# Altium integrated library RF Inductors-CAIR_rev15b.intlib: 29 symbols
Pins are listed as number, name and electrical type; pins without a type are passive.

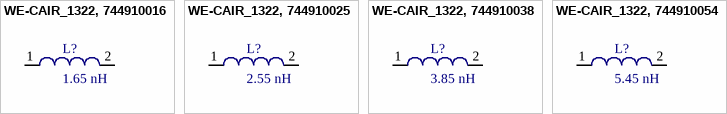
[diagram p0: symbols WE-CAIR_1322, 744910016 to WE-CAIR_1322, 744910054]

## WE-CAIR_1322, 744910016
designator L?, comment 1.65 nH
WE-CAIR Air Coil, L=1.65 nH; partNo: 744910016; Manufacturer: Wurth Elektronik; Inductance: 1.65 nH; ComponentLink1Description: Manufacturer; ComponentLink1URL: http://www.we-online.de; Created by: Baojun Chen; Created Date: Nov.2015; ComponentLink2Description: Datasheet; ComponentLink2URL: http://katalog.we-online.de/pbs/datasheet/744910016.pdf
footprint WE-CAIR_1322 (SMD Inductor, 2-Leads, Body 2.21 x 1.42mm)
pins: 1, 2

## WE-CAIR_1322, 744910025
designator L?, comment 2.55 nH
WE-CAIR Air Coil, L=2.55 nH; partNo: 744910025; Manufacturer: Wurth Elektronik; Inductance: 2.55 nH; ComponentLink1Description: Manufacturer; ComponentLink1URL: http://www.we-online.de; Created by: Baojun Chen; Created Date: Nov.2015; ComponentLink2Description: Datasheet; ComponentLink2URL: http://katalog.we-online.de/pbs/datasheet/744910025.pdf
footprint WE-CAIR_1322 (SMD Inductor, 2-Leads, Body 2.21 x 1.42mm)
pins: 1, 2

## WE-CAIR_1322, 744910038
designator L?, comment 3.85 nH
WE-CAIR Air Coil, L=3.85 nH; partNo: 744910038; Manufacturer: Wurth Elektronik; Inductance: 3.85 nH; ComponentLink1Description: Manufacturer; ComponentLink1URL: http://www.we-online.de; Created by: Baojun Chen; Created Date: Nov.2015; ComponentLink2Description: Datasheet; ComponentLink2URL: http://katalog.we-online.de/pbs/datasheet/744910038.pdf
footprint WE-CAIR_1322 (SMD Inductor, 2-Leads, Body 2.21 x 1.42mm)
pins: 1, 2

## WE-CAIR_1322, 744910054
designator L?, comment 5.45 nH
WE-CAIR Air Coil, L=5.45 nH; partNo: 744910054; Manufacturer: Wurth Elektronik; Inductance: 5.45 nH; ComponentLink1Description: Manufacturer; ComponentLink1URL: http://www.we-online.de; Created by: Baojun Chen; Created Date: Nov.2015; ComponentLink2Description: Datasheet; ComponentLink2URL: http://katalog.we-online.de/pbs/datasheet/744910054.pdf
footprint WE-CAIR_1322 (SMD Inductor, 2-Leads, Body 2.21 x 1.42mm)
pins: 1, 2


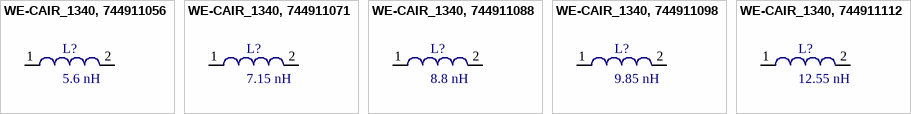
[diagram p1: symbols WE-CAIR_1340, 744911056 to WE-CAIR_1340, 744911112]

## WE-CAIR_1340, 744911056
designator L?, comment 5.6 nH
WE-CAIR Air Coil, L=5.6 nH; partNo: 744911056; Manufacturer: Wurth Elektronik; Inductance: 5.6 nH; ComponentLink1Description: Manufacturer; ComponentLink1URL: http://www.we-online.de; Created by: Baojun Chen; Created Date: Nov.2015; ComponentLink2Description: Datasheet; ComponentLink2URL: http://katalog.we-online.de/pbs/datasheet/744911056.pdf
footprint WE-CAIR_1340 (SMD Inductor, 2-Leads, Body 4.04 x 1.42mm)
pins: 1, 2

## WE-CAIR_1340, 744911071
designator L?, comment 7.15 nH
WE-CAIR Air Coil, L=7.15 nH; partNo: 744911071; Manufacturer: Wurth Elektronik; Inductance: 7.15 nH; ComponentLink1Description: Manufacturer; ComponentLink1URL: http://www.we-online.de; Created by: Baojun Chen; Created Date: Nov.2015; ComponentLink2Description: Datasheet; ComponentLink2URL: http://katalog.we-online.de/pbs/datasheet/744911071.pdf
footprint WE-CAIR_1340 (SMD Inductor, 2-Leads, Body 4.04 x 1.42mm)
pins: 1, 2

## WE-CAIR_1340, 744911088
designator L?, comment 8.8 nH
WE-CAIR Air Coil, L=8.8 nH; partNo: 744911088; Manufacturer: Wurth Elektronik; Inductance: 8.8 nH; ComponentLink1Description: Manufacturer; ComponentLink1URL: http://www.we-online.de; Created by: Baojun Chen; Created Date: Nov.2015; ComponentLink2Description: Datasheet; ComponentLink2URL: http://katalog.we-online.de/pbs/datasheet/744911088.pdf
footprint WE-CAIR_1340 (SMD Inductor, 2-Leads, Body 4.04 x 1.42mm)
pins: 1, 2

## WE-CAIR_1340, 744911098
designator L?, comment 9.85 nH
WE-CAIR Air Coil, L=9.85 nH; partNo: 744911098; Manufacturer: Wurth Elektronik; Inductance: 9.85 nH; ComponentLink1Description: Manufacturer; ComponentLink1URL: http://www.we-online.de; Created by: Baojun Chen; Created Date: Nov.2015; ComponentLink2Description: Datasheet; ComponentLink2URL: http://katalog.we-online.de/pbs/datasheet/744911098.pdf
footprint WE-CAIR_1340 (SMD Inductor, 2-Leads, Body 4.04 x 1.42mm)
pins: 1, 2

## WE-CAIR_1340, 744911112
designator L?, comment 12.55 nH
WE-CAIR Air Coil, L=12.55 nH; partNo: 744911112; Manufacturer: Wurth Elektronik; Inductance: 12.55 nH; ComponentLink1Description: Manufacturer; ComponentLink1URL: http://www.we-online.de; Created by: Baojun Chen; Created Date: Nov.2015; ComponentLink2Description: Datasheet; ComponentLink2URL: http://katalog.we-online.de/pbs/datasheet/744911112.pdf
footprint WE-CAIR_1340 (SMD Inductor, 2-Leads, Body 4.04 x 1.42mm)
pins: 1, 2


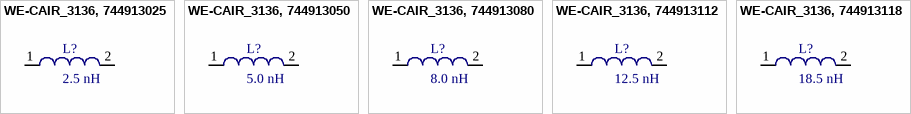
[diagram p2: symbols WE-CAIR_3136, 744913025 to WE-CAIR_3136, 744913118]

## WE-CAIR_3136, 744913025
designator L?, comment 2.5 nH
WE-CAIR Air Coil, L=2.5 nH; partNo: 744913025; Manufacturer: Wurth Elektronik; Inductance: 2.5 nH; ComponentLink1Description: Manufacturer; ComponentLink1URL: http://www.we-online.de; Created by: Baojun Chen; Created Date: Nov.2015; ComponentLink2Description: Datasheet; ComponentLink2URL: http://katalog.we-online.de/pbs/datasheet/744913025.pdf
footprint WE-CAIR_3136
pins: 1, 2

## WE-CAIR_3136, 744913050
designator L?, comment 5.0 nH
WE-CAIR Air Coil, L=5.0 nH; partNo: 744913050; Manufacturer: Wurth Elektronik; Inductance: 5.0 nH; ComponentLink1Description: Manufacturer; ComponentLink1URL: http://www.we-online.de; Created by: Baojun Chen; Created Date: Nov.2015; ComponentLink2Description: Datasheet; ComponentLink2URL: http://katalog.we-online.de/pbs/datasheet/744913050.pdf
footprint WE-CAIR_3136
pins: 1, 2

## WE-CAIR_3136, 744913080
designator L?, comment 8.0 nH
WE-CAIR Air Coil, L=8.0 nH; partNo: 744913080; Manufacturer: Wurth Elektronik; Inductance: 8.0 nH; ComponentLink1Description: Manufacturer; ComponentLink1URL: http://www.we-online.de; Created by: Baojun Chen; Created Date: Nov.2015; ComponentLink2Description: Datasheet; ComponentLink2URL: http://katalog.we-online.de/pbs/datasheet/744913080.pdf
footprint WE-CAIR_3136
pins: 1, 2

## WE-CAIR_3136, 744913112
designator L?, comment 12.5 nH
WE-CAIR Air Coil, L=12.5 nH; partNo: 744913112; Manufacturer: Wurth Elektronik; Inductance: 12.5 nH; ComponentLink1Description: Manufacturer; ComponentLink1URL: http://www.we-online.de; Created by: Baojun Chen; Created Date: Nov.2015; ComponentLink2Description: Datasheet; ComponentLink2URL: http://katalog.we-online.de/pbs/datasheet/744913112.pdf
footprint WE-CAIR_3136
pins: 1, 2

## WE-CAIR_3136, 744913118
designator L?, comment 18.5 nH
WE-CAIR Air Coil, L=18.5 nH; partNo: 744913118; Manufacturer: Wurth Elektronik; Inductance: 18.5 nH; ComponentLink1Description: Manufacturer; ComponentLink1URL: http://www.we-online.de; Created by: Baojun Chen; Created Date: Nov.2015; ComponentLink2Description: Datasheet; ComponentLink2URL: http://katalog.we-online.de/pbs/datasheet/744913118.pdf
footprint WE-CAIR_3136
pins: 1, 2


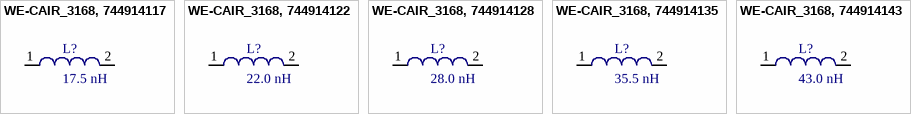
[diagram p3: symbols WE-CAIR_3168, 744914117 to WE-CAIR_3168, 744914143]

## WE-CAIR_3168, 744914117
designator L?, comment 17.5 nH
WE-CAIR Air Coil, L=17.5 nH; partNo: 744914117; Manufacturer: Wurth Elektronik; Inductance: 17.5 nH; ComponentLink1Description: Manufacturer; ComponentLink1URL: http://www.we-online.de; Created by: Baojun Chen; Created Date: Nov.2015; ComponentLink2Description: Datasheet; ComponentLink2URL: http://katalog.we-online.de/pbs/datasheet/744914117.pdf
footprint WE-CAIR_3168
pins: 1, 2

## WE-CAIR_3168, 744914122
designator L?, comment 22.0 nH
WE-CAIR Air Coil, L=22.0 nH; partNo: 744914122; Manufacturer: Wurth Elektronik; Inductance: 22.0 nH; ComponentLink1Description: Manufacturer; ComponentLink1URL: http://www.we-online.de; Created by: Baojun Chen; Created Date: Nov.2015; ComponentLink2Description: Datasheet; ComponentLink2URL: http://katalog.we-online.de/pbs/datasheet/744914122.pdf
footprint WE-CAIR_3168
pins: 1, 2

## WE-CAIR_3168, 744914128
designator L?, comment 28.0 nH
WE-CAIR Air Coil, L=28.0 nH; partNo: 744914128; Manufacturer: Wurth Elektronik; Inductance: 28.0 nH; ComponentLink1Description: Manufacturer; ComponentLink1URL: http://www.we-online.de; Created by: Baojun Chen; Created Date: Nov.2015; ComponentLink2Description: Datasheet; ComponentLink2URL: http://katalog.we-online.de/pbs/datasheet/744914128.pdf
footprint WE-CAIR_3168
pins: 1, 2

## WE-CAIR_3168, 744914135
designator L?, comment 35.5 nH
WE-CAIR Air Coil, L=35.5 nH; partNo: 744914135; Manufacturer: Wurth Elektronik; Inductance: 35.5 nH; ComponentLink1Description: Manufacturer; ComponentLink1URL: http://www.we-online.de; Created by: Baojun Chen; Created Date: Nov.2015; ComponentLink2Description: Datasheet; ComponentLink2URL: http://katalog.we-online.de/pbs/datasheet/744914135.pdf
footprint WE-CAIR_3168
pins: 1, 2

## WE-CAIR_3168, 744914143
designator L?, comment 43.0 nH
WE-CAIR Air Coil, L=43.0 nH; partNo: 744914143; Manufacturer: Wurth Elektronik; Inductance: 43.0 nH; ComponentLink1Description: Manufacturer; ComponentLink1URL: http://www.we-online.de; Created by: Baojun Chen; Created Date: Nov.2015; ComponentLink2Description: Datasheet; ComponentLink2URL: http://katalog.we-online.de/pbs/datasheet/744914143.pdf
footprint WE-CAIR_3168
pins: 1, 2


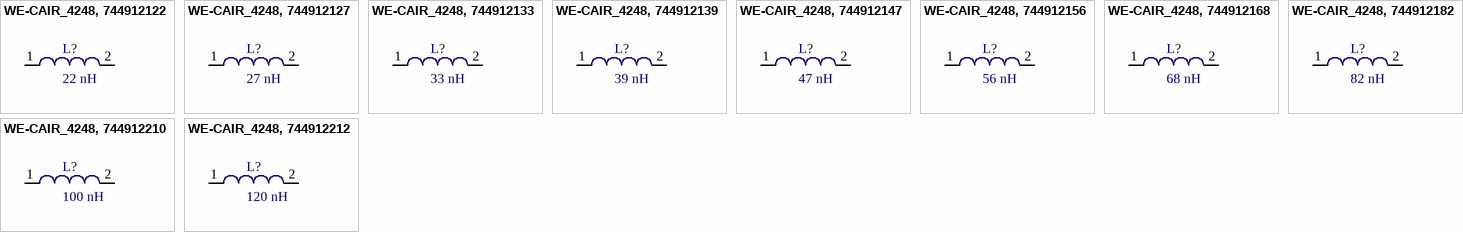
[diagram p4: symbols WE-CAIR_4248, 744912122 to WE-CAIR_4248, 744912212]

## WE-CAIR_4248, 744912122
designator L?, comment 22 nH
WE-CAIR Air Coil, L=22 nH; partNo: 744912122; Manufacturer: Wurth Elektronik; Inductance: 22 nH; ComponentLink1Description: Manufacturer; ComponentLink1URL: http://www.we-online.de; Created by: Baojun Chen; Created Date: Nov.2015; ComponentLink2Description: Datasheet; ComponentLink2URL: http://katalog.we-online.de/pbs/datasheet/744912122.pdf
footprint WE-CAIR_4248 (SMD Inductor, 2-Leads, Body 4.83 x 6.36mm)
pins: 1, 2

## WE-CAIR_4248, 744912127
designator L?, comment 27 nH
WE-CAIR Air Coil, L=27 nH; partNo: 744912127; Manufacturer: Wurth Elektronik; Inductance: 27 nH; ComponentLink1Description: Manufacturer; ComponentLink1URL: http://www.we-online.de; Created by: Baojun Chen; Created Date: Nov.2015; ComponentLink2Description: Datasheet; ComponentLink2URL: http://katalog.we-online.de/pbs/datasheet/744912127.pdf
footprint WE-CAIR_4248 (SMD Inductor, 2-Leads, Body 4.83 x 6.36mm)
pins: 1, 2

## WE-CAIR_4248, 744912133
designator L?, comment 33 nH
WE-CAIR Air Coil, L=33 nH; partNo: 744912133; Manufacturer: Wurth Elektronik; Inductance: 33 nH; ComponentLink1Description: Manufacturer; ComponentLink1URL: http://www.we-online.de; Created by: Baojun Chen; Created Date: Nov.2015; ComponentLink2Description: Datasheet; ComponentLink2URL: http://katalog.we-online.de/pbs/datasheet/744912133.pdf
footprint WE-CAIR_4248 (SMD Inductor, 2-Leads, Body 4.83 x 6.36mm)
pins: 1, 2

## WE-CAIR_4248, 744912139
designator L?, comment 39 nH
WE-CAIR Air Coil, L=39 nH; partNo: 744912139; Manufacturer: Wurth Elektronik; Inductance: 39 nH; ComponentLink1Description: Manufacturer; ComponentLink1URL: http://www.we-online.de; Created by: Baojun Chen; Created Date: Nov.2015; ComponentLink2Description: Datasheet; ComponentLink2URL: http://katalog.we-online.de/pbs/datasheet/744912139.pdf
footprint WE-CAIR_4248 (SMD Inductor, 2-Leads, Body 4.83 x 6.36mm)
pins: 1, 2

## WE-CAIR_4248, 744912147
designator L?, comment 47 nH
WE-CAIR Air Coil, L=47 nH; partNo: 744912147; Manufacturer: Wurth Elektronik; Inductance: 47 nH; ComponentLink1Description: Manufacturer; ComponentLink1URL: http://www.we-online.de; Created by: Baojun Chen; Created Date: Nov.2015; ComponentLink2Description: Datasheet; ComponentLink2URL: http://katalog.we-online.de/pbs/datasheet/744912147.pdf
footprint WE-CAIR_4248 (SMD Inductor, 2-Leads, Body 4.83 x 6.36mm)
pins: 1, 2

## WE-CAIR_4248, 744912156
designator L?, comment 56 nH
WE-CAIR Air Coil, L=56 nH; partNo: 744912156; Manufacturer: Wurth Elektronik; Inductance: 56 nH; ComponentLink1Description: Manufacturer; ComponentLink1URL: http://www.we-online.de; Created by: Baojun Chen; Created Date: Nov.2015; ComponentLink2Description: Datasheet; ComponentLink2URL: http://katalog.we-online.de/pbs/datasheet/744912156.pdf
footprint WE-CAIR_4248 (SMD Inductor, 2-Leads, Body 4.83 x 6.36mm)
pins: 1, 2

## WE-CAIR_4248, 744912168
designator L?, comment 68 nH
WE-CAIR Air Coil, L=68 nH; partNo: 744912168; Manufacturer: Wurth Elektronik; Inductance: 68 nH; ComponentLink1Description: Manufacturer; ComponentLink1URL: http://www.we-online.de; Created by: Baojun Chen; Created Date: Nov.2015; ComponentLink2Description: Datasheet; ComponentLink2URL: http://katalog.we-online.de/pbs/datasheet/744912168.pdf
footprint WE-CAIR_4248 (SMD Inductor, 2-Leads, Body 4.83 x 6.36mm)
pins: 1, 2

## WE-CAIR_4248, 744912182
designator L?, comment 82 nH
WE-CAIR Air Coil, L=82 nH; partNo: 744912182; Manufacturer: Wurth Elektronik; Inductance: 82 nH; ComponentLink1Description: Manufacturer; ComponentLink1URL: http://www.we-online.de; Created by: Baojun Chen; Created Date: Nov.2015; ComponentLink2Description: Datasheet; ComponentLink2URL: http://katalog.we-online.de/pbs/datasheet/744912182.pdf
footprint WE-CAIR_4248 (SMD Inductor, 2-Leads, Body 4.83 x 6.36mm)
pins: 1, 2

## WE-CAIR_4248, 744912210
designator L?, comment 100 nH
WE-CAIR Air Coil, L=100 nH; partNo: 744912210; Manufacturer: Wurth Elektronik; Inductance: 100 nH; ComponentLink1Description: Manufacturer; ComponentLink1URL: http://www.we-online.de; Created by: Baojun Chen; Created Date: Nov.2015; ComponentLink2Description: Datasheet; ComponentLink2URL: http://katalog.we-online.de/pbs/datasheet/744912210.pdf
footprint WE-CAIR_4248 (SMD Inductor, 2-Leads, Body 4.83 x 6.36mm)
pins: 1, 2

## WE-CAIR_4248, 744912212
designator L?, comment 120 nH
WE-CAIR Air Coil, L=120 nH; partNo: 744912212; Manufacturer: Wurth Elektronik; Inductance: 120 nH; ComponentLink1Description: Manufacturer; ComponentLink1URL: http://www.we-online.de; Created by: Baojun Chen; Created Date: Nov.2015; ComponentLink2Description: Datasheet; ComponentLink2URL: http://katalog.we-online.de/pbs/datasheet/744912212.pdf
footprint WE-CAIR_4248 (SMD Inductor, 2-Leads, Body 4.83 x 6.36mm)
pins: 1, 2